# Altium footprint library Conn_Batt.PcbLib: 8 footprints
Each footprint in its own frame and in the unit in brackets; x right, y up, seen from the top. Pads: shape width x height; smd on the part's side, far side on the other; paste and mask are expansions set on the pad; w line width, h text height; cw(c..) or ccw(c..) is an arc to the next point about the centre after c.
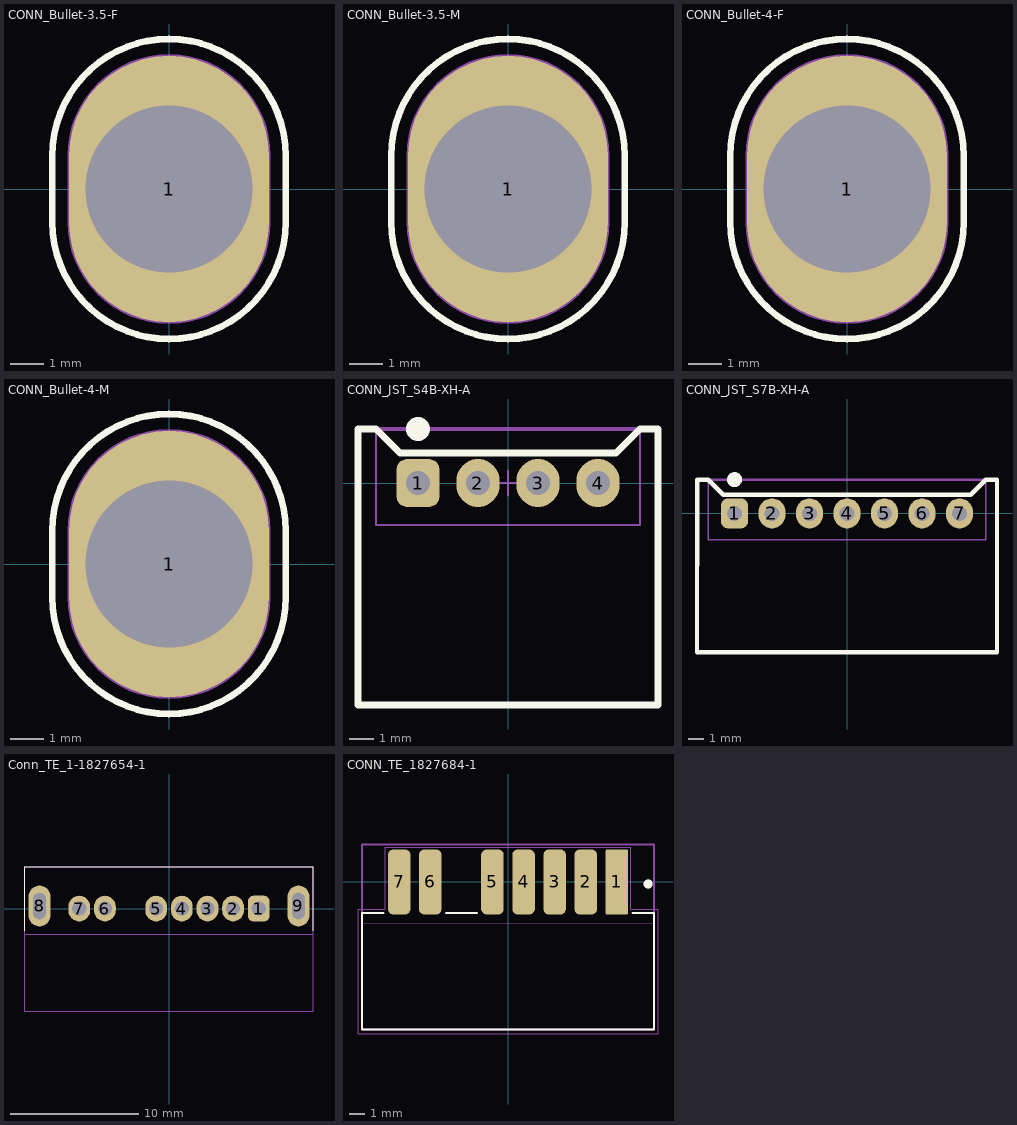
[diagram p0: the footprints below, top view; thin cyan lines are the x and y axes]

## CONN_Bullet-3.5-F [mm] "bullet connector  3,5mm femelle"
pads (1):
  oval 6x8 hole 5: 1(0,0)
Top Overlay:
  lines w0.2: -3.5,-1 ccw(c0,-1) 3.5,-1 3.5,1 ccw(c0,1) -3.5,1 -3.5,-1
Mechanical 15:
  lines w0.1: -0.475,0 0.475,0 ; 0,-0.475 0,0.475 ; -3.5,-1 ccw(c0,-1) 3.5,-1 3.5,1 ccw(c0,1) -3.5,1 -3.5,-1
Mechanical 17:
  lines w0.1: -3,-1 ccw(c0,-1) 3,-1 3,1 ccw(c0,1) -3,1 -3,-1
  text ".Designator" at 0,0 h1
3D body "bullet_35_F.STEP": height 9.65, standoff -2.5, extent -2.4,-2.4 2.4,2.4

## CONN_Bullet-3.5-M [mm] "bullet connector  3,5mm male"
pads (1):
  oval 6x8 hole 5: 1(0,0)
Top Overlay:
  lines w0.2: -3.5,-1 ccw(c0,-1) 3.5,-1 3.5,1 ccw(c0,1) -3.5,1 -3.5,-1
Mechanical 15:
  lines w0.1: -0.475,0 0.475,0 ; 0,-0.475 0,0.475 ; -3.5,-1 ccw(c0,-1) 3.5,-1 3.5,1 ccw(c0,1) -3.5,1 -3.5,-1
Mechanical 17:
  lines w0.1: -3,-1 ccw(c0,-1) 3,-1 3,1 ccw(c0,1) -3,1 -3,-1
  text ".Designator" at 0,0 h1
3D body "bullet_35_M.STEP": height 9.85, standoff -2.65, extent -2.5,-2.5 2.5,2.5

## CONN_Bullet-4-F [mm] "bullet connector 4mm femelle"
pads (1):
  oval 6x8 hole 5: 1(0,0)
Top Overlay:
  lines w0.2: -3.5,-1 ccw(c0,-1) 3.5,-1 3.5,1 ccw(c0,1) -3.5,1 -3.5,-1
Mechanical 15:
  lines w0.1: -0.475,0 0.475,0 ; 0,-0.475 0,0.475 ; -3.5,-1 ccw(c0,-1) 3.5,-1 3.5,1 ccw(c0,1) -3.5,1 -3.5,-1
Mechanical 17:
  lines w0.1: -3,-1 ccw(c0,-1) 3,-1 3,1 ccw(c0,1) -3,1 -3,-1
  text ".Designator" at 0,0 h1
3D body "bullet_4_F.STEP": height 10, standoff -10, extent -2.4,-2.4 2.4,2.4

## CONN_Bullet-4-M [mm] "bullet connector 4mm male"
pads (1):
  oval 6x8 hole 5: 1(0,0)
Top Overlay:
  lines w0.2: -3.5,-1 ccw(c0,-1) 3.5,-1 3.5,1 ccw(c0,1) -3.5,1 -3.5,-1
Mechanical 15:
  lines w0.1: -0.475,0 0.475,0 ; 0,-0.475 0,0.475 ; -3.5,-1 ccw(c0,-1) 3.5,-1 3.5,1 ccw(c0,1) -3.5,1 -3.5,-1
Mechanical 17:
  lines w0.1: -3,-1 ccw(c0,-1) 3,-1 3,1 ccw(c0,1) -3,1 -3,-1
  text ".Designator" at 0,0 h1
3D body "bullet_4_M.STEP": height 17.4, standoff -2.6, extent -2.5,-2.5 2.5,2.5

## CONN_JST_S4B-XH-A [mm]
pads (4):
  rrect50% 1.8x2 hole 1: 1(-3.75,0)
  oval 1.8x2 hole 1: 2(-1.25,0) 3(1.25,0) 4(3.75,0)
Top Overlay:
  circle w0.5: c-3.75,2.25 r0.25
  lines w0.3: -6.25,-9.25 6.25,-9.25 6.25,2.25 5.5,2.25 4.5,1.25 -4.5,1.25 -5.5,2.25 -6.25,2.25 -6.25,-9.25
Mechanical 15:
  lines w0.1: -0.508,0 0.508,0 ; 0,-0.508 0,0.508
  lines w0.15: -6.25,-9.25 6.25,-9.25 6.25,2.25 -6.25,2.25 -6.25,-9.25
Mechanical 17:
  lines w0.1: -6.25,-9.25 -6.25,2.25 -5.5,2.25 -5.5,-1.75 5.5,-1.75 5.5,2.25 6.25,2.25 6.25,-9.25 -6.25,-9.25
  text ".Designator" at -2.25,-4.5 h1.5
3D body "User Library-S XH-A.step": height 6.1, standoff -2, extent -6.2,-9.2 6.2,2.3

## CONN_JST_S7B-XH-A [mm]
pads (7):
  rrect50% 1.8x2 hole 1: 1(-7.5,0)
  oval 1.8x2 hole 1: 2(-5,0) 3(-2.5,0) 4(0,0) 5(2.5,0) 6(5,0) 7(7.5,0)
Top Overlay:
  circle w0.5: c-7.5,2.25 r0.25
  lines w0.3: -10,-9.25 10,-9.25 10,2.25 9.25,2.25 8.25,1.25 -8.25,1.25 -9.25,2.25 -10,2.25 -10,-9.25
Mechanical 15:
  lines w0.1: -0.508,0 0.508,0 ; 0,-0.508 0,0.508
  lines w0.15: -10,-9.25 10,-9.25 10,2.25 -10,2.25 -10,-9.25
Mechanical 17:
  lines w0.1: -10,-9.25 -10,2.25 -9.25,2.25 -9.25,-1.75 9.25,-1.75 9.25,2.25 10,2.25 10,-9.25 -10,-9.25
  text ".Designator" at -2.75,-4.5 h1.5
3D body "User Library-S XH-A (1).step": height 6.1, standoff -2, extent -9.95,-9.2 9.95,2.3

## Conn_TE_1-1827654-1 [mm]
pads (9):
  rrect50% 1.7x2 hole 1.1 mask+0.05: 1(7,0)
  oval 1.7x2 hole 1.1: 2(5,0) 3(3,0) 4(1,0) 5(-1,0) 6(-5,0) 7(-7,0)
  rrect100% 1.7x3.2 hole 1 slot 2.04 at 90 deg mask+0.05: 8(-10.1,0.2) 9(10.1,0.2)
Top Overlay:
  lines w0.05: -11.25,-1.75 -11.25,3.25 11.25,3.25 11.25,-1.75
Mechanical 17:
  lines w0.05: -11.25,-2 11.25,-2 ; -11.25,-8 11.25,-8 11.25,3.25 -11.25,3.25 -11.25,-8
  text ".Designator" at -4.5,1.5 h2.15
  text "PCB EDGE" at -2.75,-3.25 h1.2
3D body "c-1-1827654-1-b2-3d.stp": height 4, standoff -1.9, extent -11.3,-8.1 11.3,3.3

## CONN_TE_1827684-1 [mm]
pads (7):
  rrect15% 1.45x4.2 smd: 1(7,0)
  rrect50% 1.45x4.2 smd: 2(5,0) 3(3,0) 4(1,0) 5(-1,0) 6(-5,0) 7(-7,0)
Top Overlay:
  circle w0.3: c9.017,-0.127 r0.141
  lines w0.127: -8,-2 -9.4,-2 -9.4,-9.5 9.4,-9.5 9.4,-2 8,-2 ; -4,-2 -2,-2
Mechanical 15:
  lines w0.05: -9.65,-9.75 -9.65,-1.75 -7.9,-1.75 -7.9,2.25 7.9,2.25 7.9,-1.75 9.65,-1.75 9.65,-9.75 -9.65,-9.75
Mechanical 17:
  circle w0.3: c9.017,-0.127 r0.141
  lines w0.05: -9.4,-2.692 9.4,-2.667
  lines w0.127: -9.4,-9.5 -9.4,2.413 9.4,2.413 9.4,-9.5 -9.4,-9.5
  text "PCB EDGE" at -3.429,-3.81 h1.2
  text ".designator" at -3.048,-0.381 h1.2
3D body "c-1827684-1-d-3d.stp": height 3.3, standoff -0.7, extent -9.4,-9.033 9.4,1.667